# Altium footprint library DGN-16X60.PcbLib: 1 footprints
Each footprint in its own frame and in the unit in brackets; x right, y up, seen from the top. Pads: shape width x height; smd on the part's side, far side on the other; paste and mask are expansions set on the pad; w line width, h text height; cw(c..) or ccw(c..) is an arc to the next point about the centre after c.
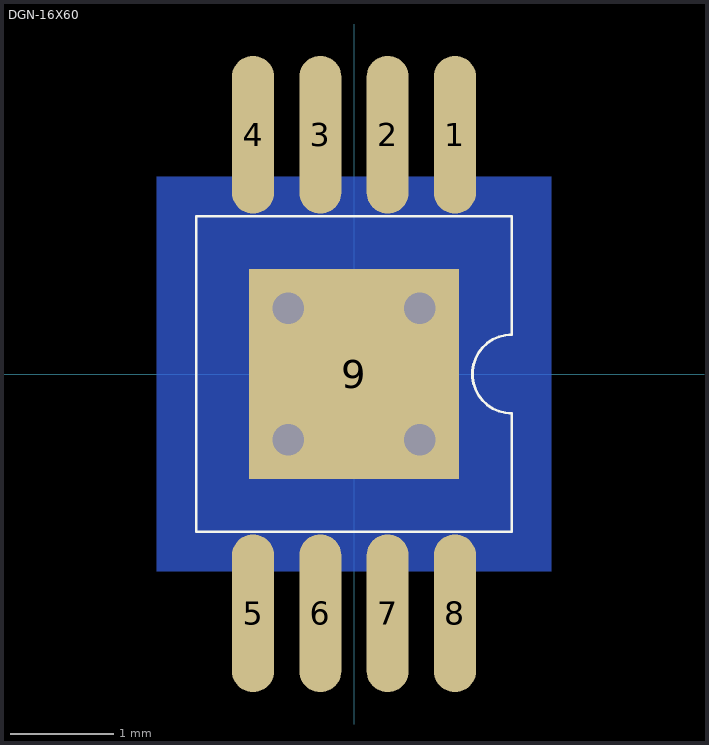
[diagram p0: the footprint, top view; thin cyan lines are the x and y axes]

## DGN-16X60 [mil]
pads (9):
  oval 16x60 smd mask+2: 1(38.4,91) 2(12.8,91) 3(-12.8,91) 4(-38.4,91) 5(-38.4,-91) 6(-12.8,-91) 7(12.8,-91) 8(38.4,-91)
  rect 80x80 smd mask+2: 9(0,0)
via 25,-25 diameter 22 hole 12
via -25,-25 diameter 22 hole 12
via -25,25 diameter 22 hole 12
via 25,25 diameter 22 hole 12
Bottom Layer:
  region: 75,-75 75,75 -75,75 -75,-75
Top Overlay:
  lines w1: -60,-60 60,-60 60,-15 cw(c60,0) 60,15 60,60 -60,60 -60,-60